# Altium schematic symbol library DCDC_CHANNEL.SchLib: 20 symbols
Pins are listed as number, name and electrical type; pins without a type are passive.

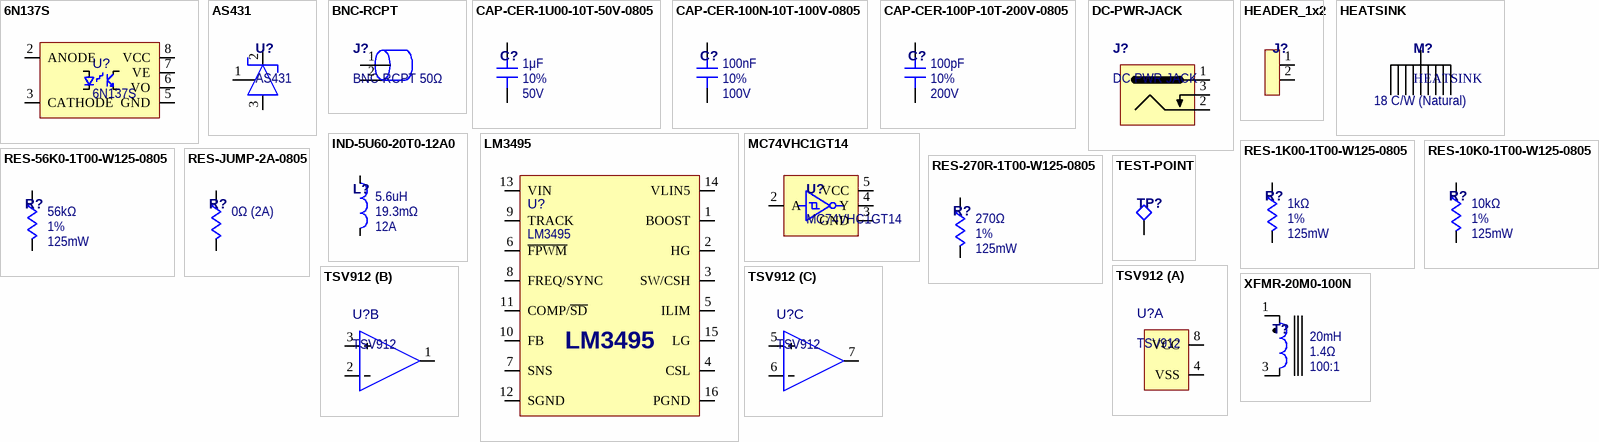
[diagram p0: symbols 6N137S to XFMR-20M0-100N]

## 6N137S
designator U?
High-Speed Optocoupler, 10MBd; Supplier 1: Digi-Key; Supplier Part Number 1: 160-1793-ND
pins: 2 ANODE, 3 CATHODE, 5 GND (power), 6 VO (oc), 7 VE, 8 VCC (power)

## AS431
designator U?
Shunt Voltage Reference, 2.5V, 0.5%; Supplier 1: Digi-Key; Supplier Part Number 1: AS431ANTR-G1DICT-ND
pins: 1 REF, 2 CATHODE, 3 ANODE

## BNC-RCPT
designator J?, comment BNC RCPT 50Ω
BNC Receptacle, 50Ω; Supplier 1: Digi-Key; Supplier Part Number 1: WM5524-ND
pins: 1 12, 2 12

## CAP-CER-1U00-10T-50V-0805
designator C?, comment value 1μF  Voltage: 50V  Tolerance: 10%  (hidden comment: 1276-2928-1-ND)
CAP, CER, 1μF ±10%, 50V, 0805; Supplier 1: Digi-Key; Supplier Part Number 1: 1276-2928-1-ND
pins: 1, 2

## CAP-CER-100N-10T-100V-0805
designator C?, comment value 100nF  Voltage: 100V  Tolerance: 10%  (hidden comment: 732-12244-1-ND)
CAP, CER, 100nF ±10%, 100V, 0805; Supplier 1: Digi-Key; Supplier Part Number 1: 732-12244-1-ND
pins: 1, 2

## CAP-CER-100P-10T-200V-0805
designator C?, comment value 100pF  Voltage: 200V  Tolerance: 10%  (hidden comment: 732-12161-1-ND)
CAP, CER, 100pF ±10%, 200V, 0805; Supplier 1: Digi-Key; Supplier Part Number 1: 732-12161-1-ND
pins: 1, 2

## DC-PWR-JACK
designator J?, comment DC PWR JACK
DC Power Jack, 48V, 6.5A; Supplier 1: Digi-Key; Supplier Part Number 1: 839-54-00165CT-ND
pins: 1 9, 2 11, 3 10

## HEADER_1x2
designator J?  (no BOM)
Header 1x2 THT
pins: 1 12, 2 12

## HEATSINK
designator M?  Theta: 18 C/W (Natural)
Heatsink, 18C/W @ Natural; Supplier 1: Digi-Key; Supplier Part Number 1: ATS2115-ND
pins: 1 8

## IND-5U60-20T0-12A0
designator L?, comment value 5.6uH  Irms: 12A  DCR: 19.3mΩ  (hidden comment: SRP1038C-5R6MCT-ND)
IND, 5.6uH ±20.0%, 19.3mΩ DCR, 12A Irms; Supplier 1: Digi-Key; Supplier Part Number 1: SRP1038C-5R6MCT-ND
pins: 1, 2

## LM3495
designator U?
Current Mode Buck Controller; Supplier 1: Digi-Key; Supplier Part Number 1: LM3495MTC/NOPB-ND
pins: 1 BOOST, 2 HG, 3 SW/CSH, 4 CSL, 5 ILIM, 6 ~{FPWM}, 7 SNS, 8 FREQ/SYNC, 9 TRACK, 10 FB, 11 COMP/~{SD}, 12 SGND (power), 13 VIN (power), 14 VLIN5, 15 LG, 16 PGND (power)

## MC74VHC1GT14
designator U?
Schmitt Trigger Inverter, TTL; Supplier 1: Digi-Key; Supplier Part Number 1: M74VHC1GT14DTT1GOSCT-ND
pins: 1 NC hidden, 2 A, 3 GND, 4 Y, 5 VCC

## RES-1K00-1T00-W125-0805
designator R?, comment value 1kΩ  Tolerance: 1%  Power: 125mW  (hidden comment: RMCF0805FT1K00CT-ND)
RES, 1kΩ ±1.00%, 125mW, 0805; Supplier 1: Digi-Key; Supplier Part Number 1: RMCF0805FT1K00CT-ND
pins: 1, 2

## RES-10K0-1T00-W125-0805
designator R?, comment value 10kΩ  Tolerance: 1%  Power: 125mW  (hidden comment: RMCF0805FT10K0CT-ND)
RES, 10kΩ ±1.00%, 125mW, 0805; Supplier 1: Digi-Key; Supplier Part Number 1: RMCF0805FT10K0CT-ND
pins: 1, 2

## RES-56K0-1T00-W125-0805
designator R?, comment value 56kΩ  Tolerance: 1%  Power: 125mW  (hidden comment: RMCF0805FT56K0CT-ND)
RES, 56kΩ ±1.00%, 125mW, 0805; Supplier 1: Digi-Key; Supplier Part Number 1: RMCF0805FT56K0CT-ND
pins: 1, 2

## RES-270R-1T00-W125-0805
designator R?, comment value 270Ω  Tolerance: 1%  Power: 125mW  (hidden comment: RMCF0805FT270RCT-ND)
RES, 270Ω ±1.00%, 125mW, 0805; Supplier 1: Digi-Key; Supplier Part Number 1: RMCF0805FT270RCT-ND
pins: 1, 2

## RES-JUMP-2A-0805
designator R?, comment value 0Ω (2A)  (hidden comment: RMCF0805ZT0R00CT-ND)
RES, JUMP, 0Ω, 2A, 0805; Supplier 1: Digi-Key; Supplier Part Number 1: RMCF0805ZT0R00CT-ND
footprint R0805
pins: 1, 2

## TEST-POINT
designator TP?, comment 36-1033-ND  (value not drawn)
Test Point Loop; Supplier 1: Digi-Key; Supplier Part Number 1: 36-1033-ND
pins: 1 12

## TSV912
designator U?
Operational Amplifier, Rail-to-Rail; Supplier 1: Digi-Key; Supplier Part Number 1: 296-47162-1-ND
part A pins: 4 VSS, 8 VCC
part B pins: 1 OUT A, 2 -IN A, 3 +IN A
part C pins: 5 +IN B, 6 -IN B, 7 OUT B

## XFMR-20M0-100N
designator T?, comment value 20mH  N: 100:1  DCR: 1.4Ω  (hidden comment: 553-1543-ND)
XFMR, 20mH, 1.4Ω DCR, 100:1; Supplier 1: Digi-Key; Supplier Part Number 1: 553-1543-ND
pins: 1, 3